# Altium schematic symbol library ATMEGA328PB-AU.SchLib: 1 symbol
Pins are listed as number, name and electrical type; pins without a type are passive.

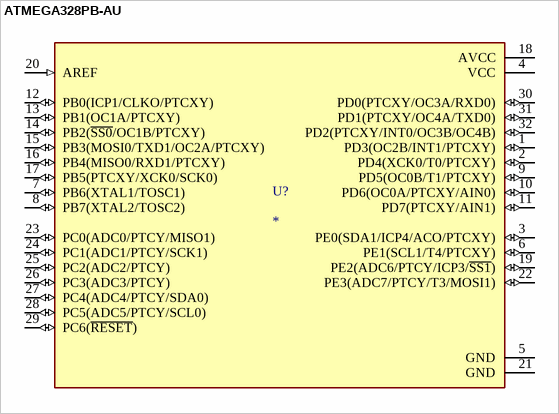
[diagram p0: symbol ATMEGA328PB-AU]

## ATMEGA328PB-AU
designator U?
AVR AVR® ATmega, Functional Safety (FuSa) Microcontroller IC 8-Bit 20MHz 32KB (16K x 16) FLASH 32-TQFP (7x7); MF: Microchip; MP: ATMEGA328PB-AU; SnapEDA_Link: https://www.snapeda.com/parts/ATMEGA328PB-AU/Microchip/view-part/?ref=snap; Package: TQFP-32 Microchip; Value: *; Check_prices: https://www.snapeda.com/parts/ATMEGA328PB-AU/Microchip/view-part/?ref=eda
footprint QFP80P900X900X120-32N
pins: 1 PD3(OC2B/INT1/PTCXY) (io), 2 PD4(XCK0/T0/PTCXY) (io), 3 PE0(SDA1/ICP4/ACO/PTCXY) (io), 4 VCC (power), 5 GND (power), 6 PE1(SCL1/T4/PTCXY) (io), 7 PB6(XTAL1/TOSC1) (io), 8 PB7(XTAL2/TOSC2) (io), 9 PD5(OC0B/T1/PTCXY) (io), 10 PD6(OC0A/PTCXY/AIN0) (io), 11 PD7(PTCXY/AIN1) (io), 12 PB0(ICP1/CLKO/PTCXY) (io), 13 PB1(OC1A/PTCXY) (io), 14 PB2(~{SS0}/OC1B/PTCXY) (io), 15 PB3(MOSI0/TXD1/OC2A/PTCXY) (io), 16 PB4(MISO0/RXD1/PTCXY) (io), 17 PB5(PTCXY/XCK0/SCK0) (io), 18 AVCC (power), 19 PE2(ADC6/PTCY/ICP3/~{SS1}) (io), 20 AREF (in), 21 GND (power), 22 PE3(ADC7/PTCY/T3/MOSI1) (io), 23 PC0(ADC0/PTCY/MISO1) (io), 24 PC1(ADC1/PTCY/SCK1) (io), 25 PC2(ADC2/PTCY) (io), 26 PC3(ADC3/PTCY) (io), 27 PC4(ADC4/PTCY/SDA0) (io), 28 PC5(ADC5/PTCY/SCL0) (io), 29 PC6(~{RESET}) (io), 30 PD0(PTCXY/OC3A/RXD0) (io), 31 PD1(PTCXY/OC4A/TXD0) (io), 32 PD2(PTCXY/INT0/OC3B/OC4B) (io)